# Altium integrated library NSC Switcher.IntLib: 2027 symbols (part 42 of 54)
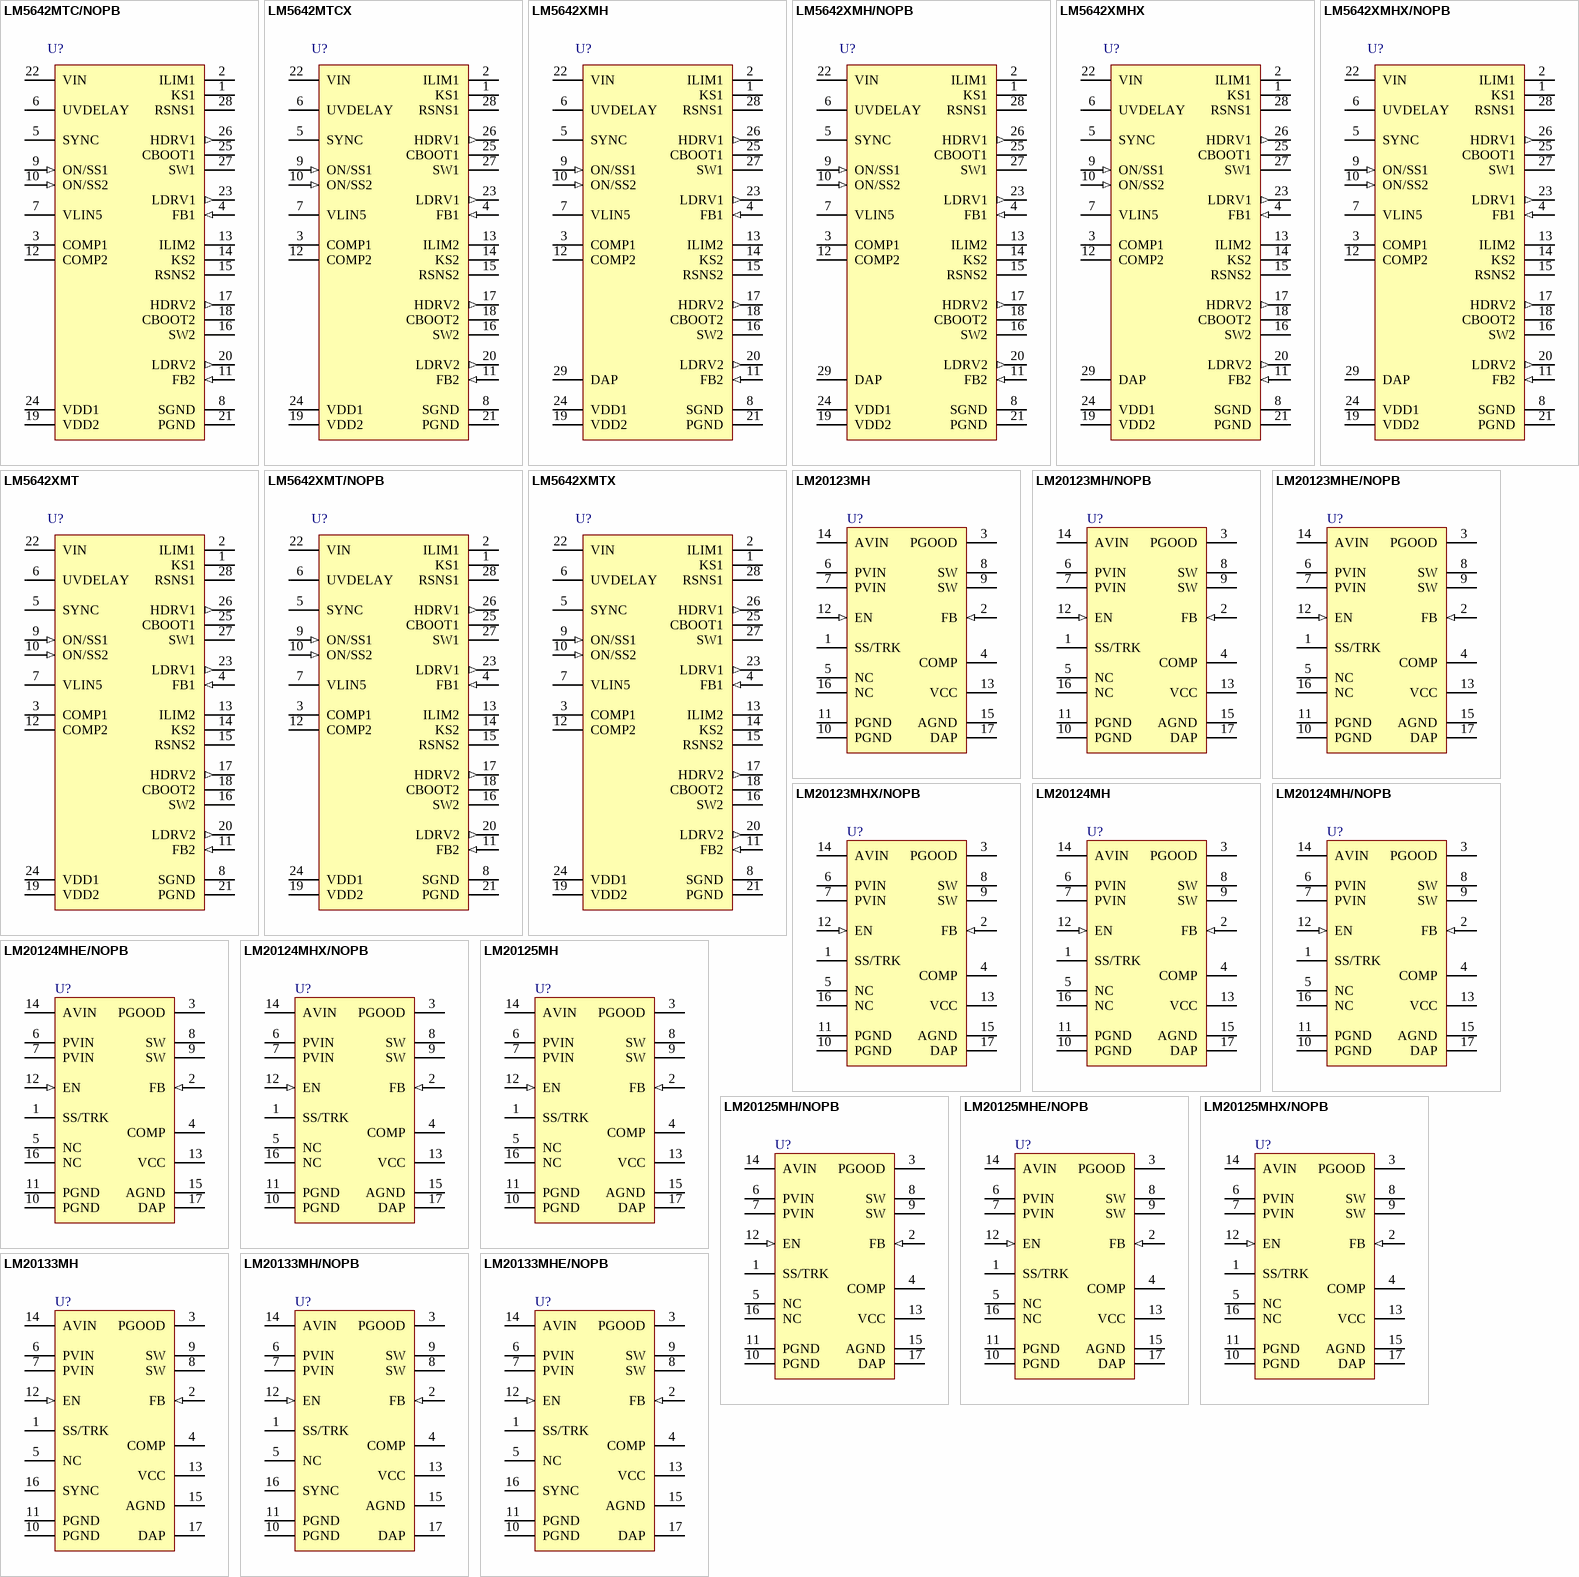
[diagram p104: symbols LM5642MTC/NOPB to LM20133MHE/NOPB]

## LM20124MH/NOPB
designator U?
4A, 1MHz PowerWise Synchronous Buck Regulator, 16-pin TSSOP-EP, Pb-Free; PartNumber: LM20124MH/NOPB; Manufacturer: National Semiconductor; PackageTopMarking: NSUZXYTT*20124*MH; PowerWise: Y; CompType: Switcher; Published: 1-Mar-2010; DatasheetVersion: Jan-2008; PackageVersion: revA, Apr-2003; PackageReference: MXA16A; Publisher: Altium Limited; PackageDescription: Molded TSSOP, Jedec, Exposed Pad, 5.0 x 4.4 x 0.9mm Body,16 Lead, 0.65mm Pitch; Supplier 1: Digi-Key; Supplier Part Number 1: LM20124MH-ND; RoHS: Y; PinCount: 16; Code_JEDEC: MO-153-ABT; ComponentLink1Description: LM20124 Datasheet; ComponentLink1URL: http://www.national.com/ds/LM/LM20124.pdf; ComponentLink2Description: LM20124 Web Page; ComponentLink2URL: http://www.national.com/pf/LM/LM20124.html; ComponentLink3Description: MXA16A Package Page; ComponentLink3URL: http://www.national.com/packaging/folders/mxa16a.html
footprint MXA16A_N (TSOP, 16-Leads, Body 5x4.4mm, Pitch 0.65mm, Exposed Pad, IPC Medium Density)
footprint MXA16A_L (TSOP, 16-Leads, Body 5x4.4mm, Pitch 0.65mm, Exposed Pad, IPC High Density)
footprint MXA16A_M (TSOP, 16-Leads, Body 5x4.4mm, Pitch 0.65mm, Exposed Pad, IPC Low Density)
pins: 1 SS/TRK, 2 FB (in), 3 PGOOD (oc), 4 COMP, 5 NC, 6 PVIN (power), 7 PVIN (power), 8 SW (power), 9 SW (power), 10 PGND (power), 11 PGND (power), 12 EN (in), 13 VCC (power), 14 AVIN (power), 15 AGND (power), 16 NC, 17 DAP (power)

## LM20124MHE/NOPB
designator U?
4A, 1MHz PowerWise Synchronous Buck Regulator, 16-pin TSSOP-EP, Pb-Free; PartNumber: LM20124MHE/NOPB; Manufacturer: National Semiconductor; PackageTopMarking: NSUZXYTT*20124*MH; PowerWise: Y; CompType: Switcher; Published: 1-Mar-2010; DatasheetVersion: Jan-2008; PackageVersion: revA, Apr-2003; PackageReference: MXA16A; Publisher: Altium Limited; PackageDescription: Molded TSSOP, Jedec, Exposed Pad, 5.0 x 4.4 x 0.9mm Body,16 Lead, 0.65mm Pitch; Supplier 1: Digi-Key; Supplier Part Number 1: LM20124MHE-ND; RoHS: Y; PinCount: 16; Code_JEDEC: MO-153-ABT; ComponentLink1Description: LM20124 Datasheet; ComponentLink1URL: http://www.national.com/ds/LM/LM20124.pdf; ComponentLink2Description: LM20124 Web Page; ComponentLink2URL: http://www.national.com/pf/LM/LM20124.html; ComponentLink3Description: MXA16A Package Page; ComponentLink3URL: http://www.national.com/packaging/folders/mxa16a.html
footprint MXA16A_N (TSOP, 16-Leads, Body 5x4.4mm, Pitch 0.65mm, Exposed Pad, IPC Medium Density)
footprint MXA16A_L (TSOP, 16-Leads, Body 5x4.4mm, Pitch 0.65mm, Exposed Pad, IPC High Density)
footprint MXA16A_M (TSOP, 16-Leads, Body 5x4.4mm, Pitch 0.65mm, Exposed Pad, IPC Low Density)
pins: 1 SS/TRK, 2 FB (in), 3 PGOOD (oc), 4 COMP, 5 NC, 6 PVIN (power), 7 PVIN (power), 8 SW (power), 9 SW (power), 10 PGND (power), 11 PGND (power), 12 EN (in), 13 VCC (power), 14 AVIN (power), 15 AGND (power), 16 NC, 17 DAP (power)

## LM20124MHX/NOPB
designator U?
4A, 1MHz PowerWise Synchronous Buck Regulator, 16-pin TSSOP-EP, Pb-Free; PartNumber: LM20124MHX/NOPB; Manufacturer: National Semiconductor; PackageTopMarking: NSUZXYTT*20124*MH; PowerWise: Y; CompType: Switcher; Published: 1-Mar-2010; DatasheetVersion: Jan-2008; PackageVersion: revA, Apr-2003; PackageReference: MXA16A; Publisher: Altium Limited; PackageDescription: Molded TSSOP, Jedec, Exposed Pad, 5.0 x 4.4 x 0.9mm Body,16 Lead, 0.65mm Pitch; Supplier 1: Digi-Key; Supplier Part Number 1: LM20124MHX-ND; RoHS: Y; PinCount: 16; Code_JEDEC: MO-153-ABT; ComponentLink1Description: LM20124 Datasheet; ComponentLink1URL: http://www.national.com/ds/LM/LM20124.pdf; ComponentLink2Description: LM20124 Web Page; ComponentLink2URL: http://www.national.com/pf/LM/LM20124.html; ComponentLink3Description: MXA16A Package Page; ComponentLink3URL: http://www.national.com/packaging/folders/mxa16a.html
footprint MXA16A_N (TSOP, 16-Leads, Body 5x4.4mm, Pitch 0.65mm, Exposed Pad, IPC Medium Density)
footprint MXA16A_L (TSOP, 16-Leads, Body 5x4.4mm, Pitch 0.65mm, Exposed Pad, IPC High Density)
footprint MXA16A_M (TSOP, 16-Leads, Body 5x4.4mm, Pitch 0.65mm, Exposed Pad, IPC Low Density)
pins: 1 SS/TRK, 2 FB (in), 3 PGOOD (oc), 4 COMP, 5 NC, 6 PVIN (power), 7 PVIN (power), 8 SW (power), 9 SW (power), 10 PGND (power), 11 PGND (power), 12 EN (in), 13 VCC (power), 14 AVIN (power), 15 AGND (power), 16 NC, 17 DAP (power)

## LM20125MH
designator U?
5A, 500kHz PowerWise Synchronous Buck Regulator, 16-pin TSSOP-EP; PartNumber: LM20125MH; Manufacturer: National Semiconductor; PackageTopMarking: NSUZXYTT*20125*MH; PowerWise: Y; CompType: Switcher; Published: 4-Dec-2008; DatasheetVersion: Jan-2008; PackageVersion: revA, Apr-2003; PackageReference: MXA16A; Publisher: Altium Limited; PackageDescription: Molded TSSOP, Jedec, Exposed Pad, 5.0 x 4.4 x 0.9mm Body,16 Lead, 0.65mm Pitch; Supplier 1: Farnell; Supplier Part Number 1: 1506829; RoHS: Y; PinCount: 16; Code_JEDEC: MO-153-ABT; ComponentLink1Description: LM20125 Datasheet; ComponentLink1URL: http://www.national.com/ds/LM/LM20125.pdf; ComponentLink2Description: LM20125 Web Page; ComponentLink2URL: http://www.national.com/pf/LM/LM20125.html; ComponentLink3Description: MXA16A Package Page; ComponentLink3URL: http://www.national.com/packaging/folders/mxa16a.html
footprint MXA16A_N (TSOP, 16-Leads, Body 5x4.4mm, Pitch 0.65mm, Exposed Pad, IPC Medium Density)
footprint MXA16A_L (TSOP, 16-Leads, Body 5x4.4mm, Pitch 0.65mm, Exposed Pad, IPC High Density)
footprint MXA16A_M (TSOP, 16-Leads, Body 5x4.4mm, Pitch 0.65mm, Exposed Pad, IPC Low Density)
pins: 1 SS/TRK, 2 FB (in), 3 PGOOD (oc), 4 COMP, 5 NC, 6 PVIN (power), 7 PVIN (power), 8 SW (power), 9 SW (power), 10 PGND (power), 11 PGND (power), 12 EN (in), 13 VCC (power), 14 AVIN (power), 15 AGND (power), 16 NC, 17 DAP (power)

## LM20125MH/NOPB
designator U?
5A, 500kHz PowerWise Synchronous Buck Regulator, 16-pin TSSOP-EP, Pb-Free; PartNumber: LM20125MH/NOPB; Manufacturer: National Semiconductor; PackageTopMarking: NSUZXYTT*20125*MH; PowerWise: Y; CompType: Switcher; Published: 1-Mar-2010; DatasheetVersion: Jan-2008; PackageVersion: revA, Apr-2003; PackageReference: MXA16A; Publisher: Altium Limited; PackageDescription: Molded TSSOP, Jedec, Exposed Pad, 5.0 x 4.4 x 0.9mm Body,16 Lead, 0.65mm Pitch; Supplier 1: Digi-Key; Supplier Part Number 1: LM20125MH-ND; Supplier 2: Farnell; Supplier Part Number 2: 1511020; RoHS: Y; PinCount: 16; Code_JEDEC: MO-153-ABT; ComponentLink1Description: LM20125 Datasheet; ComponentLink1URL: http://www.national.com/ds/LM/LM20125.pdf; ComponentLink2Description: LM20125 Web Page; ComponentLink2URL: http://www.national.com/pf/LM/LM20125.html; ComponentLink3Description: MXA16A Package Page; ComponentLink3URL: http://www.national.com/packaging/folders/mxa16a.html
footprint MXA16A_N (TSOP, 16-Leads, Body 5x4.4mm, Pitch 0.65mm, Exposed Pad, IPC Medium Density)
footprint MXA16A_L (TSOP, 16-Leads, Body 5x4.4mm, Pitch 0.65mm, Exposed Pad, IPC High Density)
footprint MXA16A_M (TSOP, 16-Leads, Body 5x4.4mm, Pitch 0.65mm, Exposed Pad, IPC Low Density)
pins: 1 SS/TRK, 2 FB (in), 3 PGOOD (oc), 4 COMP, 5 NC, 6 PVIN (power), 7 PVIN (power), 8 SW (power), 9 SW (power), 10 PGND (power), 11 PGND (power), 12 EN (in), 13 VCC (power), 14 AVIN (power), 15 AGND (power), 16 NC, 17 DAP (power)

## LM20125MHE/NOPB
designator U?
5A, 500kHz PowerWise Synchronous Buck Regulator, 16-pin TSSOP-EP, Pb-Free; PartNumber: LM20125MHE/NOPB; Manufacturer: National Semiconductor; PackageTopMarking: NSUZXYTT*20125*MH; PowerWise: Y; CompType: Switcher; Published: 1-Mar-2010; DatasheetVersion: Jan-2008; PackageVersion: revA, Apr-2003; PackageReference: MXA16A; Publisher: Altium Limited; PackageDescription: Molded TSSOP, Jedec, Exposed Pad, 5.0 x 4.4 x 0.9mm Body,16 Lead, 0.65mm Pitch; Supplier 1: Digi-Key; Supplier Part Number 1: LM20125MHE-ND; RoHS: Y; PinCount: 16; Code_JEDEC: MO-153-ABT; ComponentLink1Description: LM20125 Datasheet; ComponentLink1URL: http://www.national.com/ds/LM/LM20125.pdf; ComponentLink2Description: LM20125 Web Page; ComponentLink2URL: http://www.national.com/pf/LM/LM20125.html; ComponentLink3Description: MXA16A Package Page; ComponentLink3URL: http://www.national.com/packaging/folders/mxa16a.html
footprint MXA16A_N (TSOP, 16-Leads, Body 5x4.4mm, Pitch 0.65mm, Exposed Pad, IPC Medium Density)
footprint MXA16A_L (TSOP, 16-Leads, Body 5x4.4mm, Pitch 0.65mm, Exposed Pad, IPC High Density)
footprint MXA16A_M (TSOP, 16-Leads, Body 5x4.4mm, Pitch 0.65mm, Exposed Pad, IPC Low Density)
pins: 1 SS/TRK, 2 FB (in), 3 PGOOD (oc), 4 COMP, 5 NC, 6 PVIN (power), 7 PVIN (power), 8 SW (power), 9 SW (power), 10 PGND (power), 11 PGND (power), 12 EN (in), 13 VCC (power), 14 AVIN (power), 15 AGND (power), 16 NC, 17 DAP (power)

## LM20125MHX/NOPB
designator U?
5A, 500kHz PowerWise Synchronous Buck Regulator, 16-pin TSSOP-EP, Pb-Free; PartNumber: LM20125MHX/NOPB; Manufacturer: National Semiconductor; PackageTopMarking: NSUZXYTT*20125*MH; PowerWise: Y; CompType: Switcher; Published: 1-Mar-2010; DatasheetVersion: Jan-2008; PackageVersion: revA, Apr-2003; PackageReference: MXA16A; Publisher: Altium Limited; PackageDescription: Molded TSSOP, Jedec, Exposed Pad, 5.0 x 4.4 x 0.9mm Body,16 Lead, 0.65mm Pitch; Supplier 1: Digi-Key; Supplier Part Number 1: LM20125MHX-ND; RoHS: Y; PinCount: 16; Code_JEDEC: MO-153-ABT; ComponentLink1Description: LM20125 Datasheet; ComponentLink1URL: http://www.national.com/ds/LM/LM20125.pdf; ComponentLink2Description: LM20125 Web Page; ComponentLink2URL: http://www.national.com/pf/LM/LM20125.html; ComponentLink3Description: MXA16A Package Page; ComponentLink3URL: http://www.national.com/packaging/folders/mxa16a.html
footprint MXA16A_N (TSOP, 16-Leads, Body 5x4.4mm, Pitch 0.65mm, Exposed Pad, IPC Medium Density)
footprint MXA16A_L (TSOP, 16-Leads, Body 5x4.4mm, Pitch 0.65mm, Exposed Pad, IPC High Density)
footprint MXA16A_M (TSOP, 16-Leads, Body 5x4.4mm, Pitch 0.65mm, Exposed Pad, IPC Low Density)
pins: 1 SS/TRK, 2 FB (in), 3 PGOOD (oc), 4 COMP, 5 NC, 6 PVIN (power), 7 PVIN (power), 8 SW (power), 9 SW (power), 10 PGND (power), 11 PGND (power), 12 EN (in), 13 VCC (power), 14 AVIN (power), 15 AGND (power), 16 NC, 17 DAP (power)

## LM20133MH
designator U?
3A, PowerWise Synchronous Buck Regulator with Input Synchronization, 16-pin TSSOP-EP; PartNumber: LM20133MH; Manufacturer: National Semiconductor; PackageTopMarking: NSUZXYTT*20133*MH; PowerWise: Y; CompType: Switcher; Published: 4-Dec-2008; DatasheetVersion: Jan-2008; PackageVersion: revA, Apr-2003; PackageReference: MXA16A; Publisher: Altium Limited; PackageDescription: Molded TSSOP, Jedec, Exposed Pad, 5.0 x 4.4 x 0.9mm Body,16 Lead, 0.65mm Pitch; Supplier 1: Farnell; Supplier Part Number 1: 1495075; RoHS: Y; PinCount: 16; Code_JEDEC: MO-153-ABT; ComponentLink1Description: LM20133 Datasheet; ComponentLink1URL: http://www.national.com/ds/LM/LM20133.pdf; ComponentLink2Description: LM20133 Web Page; ComponentLink2URL: http://www.national.com/pf/LM/LM20133.html; ComponentLink3Description: MXA16A Package Page; ComponentLink3URL: http://www.national.com/packaging/folders/mxa16a.html
footprint MXA16A_N (TSOP, 16-Leads, Body 5x4.4mm, Pitch 0.65mm, Exposed Pad, IPC Medium Density)
footprint MXA16A_L (TSOP, 16-Leads, Body 5x4.4mm, Pitch 0.65mm, Exposed Pad, IPC High Density)
footprint MXA16A_M (TSOP, 16-Leads, Body 5x4.4mm, Pitch 0.65mm, Exposed Pad, IPC Low Density)
pins: 1 SS/TRK, 2 FB (in), 3 PGOOD (oc), 4 COMP, 5 NC, 6 PVIN (power), 7 PVIN (power), 8 SW (power), 9 SW (power), 10 PGND (power), 11 PGND (power), 12 EN (in), 13 VCC (power), 14 AVIN (power), 15 AGND (power), 16 SYNC, 17 DAP (power)

## LM20133MH/NOPB
designator U?
3A, PowerWise Synchronous Buck Regulator with Input Synchronization, 16-pin TSSOP-EP, Pb-Free; PartNumber: LM20133MH/NOPB; Manufacturer: National Semiconductor; PackageTopMarking: NSUZXYTT*20133*MH; PowerWise: Y; CompType: Switcher; Published: 1-Mar-2010; DatasheetVersion: Jan-2008; PackageVersion: revA, Apr-2003; PackageReference: MXA16A; Publisher: Altium Limited; PackageDescription: Molded TSSOP, Jedec, Exposed Pad, 5.0 x 4.4 x 0.9mm Body,16 Lead, 0.65mm Pitch; Supplier 1: Digi-Key; Supplier Part Number 1: LM20133MH-ND; Supplier 2: Farnell; Supplier Part Number 2: 1511024; RoHS: Y; PinCount: 16; Code_JEDEC: MO-153-ABT; ComponentLink1Description: LM20133 Datasheet; ComponentLink1URL: http://www.national.com/ds/LM/LM20133.pdf; ComponentLink2Description: LM20133 Web Page; ComponentLink2URL: http://www.national.com/pf/LM/LM20133.html; ComponentLink3Description: MXA16A Package Page; ComponentLink3URL: http://www.national.com/packaging/folders/mxa16a.html
footprint MXA16A_N (TSOP, 16-Leads, Body 5x4.4mm, Pitch 0.65mm, Exposed Pad, IPC Medium Density)
footprint MXA16A_L (TSOP, 16-Leads, Body 5x4.4mm, Pitch 0.65mm, Exposed Pad, IPC High Density)
footprint MXA16A_M (TSOP, 16-Leads, Body 5x4.4mm, Pitch 0.65mm, Exposed Pad, IPC Low Density)
pins: 1 SS/TRK, 2 FB (in), 3 PGOOD (oc), 4 COMP, 5 NC, 6 PVIN (power), 7 PVIN (power), 8 SW (power), 9 SW (power), 10 PGND (power), 11 PGND (power), 12 EN (in), 13 VCC (power), 14 AVIN (power), 15 AGND (power), 16 SYNC, 17 DAP (power)

## LM20133MHE/NOPB
designator U?
3A, PowerWise Synchronous Buck Regulator with Input Synchronization, 16-pin TSSOP-EP, Pb-Free; PartNumber: LM20133MHE/NOPB; Manufacturer: National Semiconductor; PackageTopMarking: NSUZXYTT*20133*MH; PowerWise: Y; CompType: Switcher; Published: 1-Mar-2010; DatasheetVersion: Jan-2008; PackageVersion: revA, Apr-2003; PackageReference: MXA16A; Publisher: Altium Limited; PackageDescription: Molded TSSOP, Jedec, Exposed Pad, 5.0 x 4.4 x 0.9mm Body,16 Lead, 0.65mm Pitch; Supplier 1: Digi-Key; Supplier Part Number 1: LM20133MHE-ND; RoHS: Y; PinCount: 16; Code_JEDEC: MO-153-ABT; ComponentLink1Description: LM20133 Datasheet; ComponentLink1URL: http://www.national.com/ds/LM/LM20133.pdf; ComponentLink2Description: LM20133 Web Page; ComponentLink2URL: http://www.national.com/pf/LM/LM20133.html; ComponentLink3Description: MXA16A Package Page; ComponentLink3URL: http://www.national.com/packaging/folders/mxa16a.html
footprint MXA16A_N (TSOP, 16-Leads, Body 5x4.4mm, Pitch 0.65mm, Exposed Pad, IPC Medium Density)
footprint MXA16A_L (TSOP, 16-Leads, Body 5x4.4mm, Pitch 0.65mm, Exposed Pad, IPC High Density)
footprint MXA16A_M (TSOP, 16-Leads, Body 5x4.4mm, Pitch 0.65mm, Exposed Pad, IPC Low Density)
pins: 1 SS/TRK, 2 FB (in), 3 PGOOD (oc), 4 COMP, 5 NC, 6 PVIN (power), 7 PVIN (power), 8 SW (power), 9 SW (power), 10 PGND (power), 11 PGND (power), 12 EN (in), 13 VCC (power), 14 AVIN (power), 15 AGND (power), 16 SYNC, 17 DAP (power)

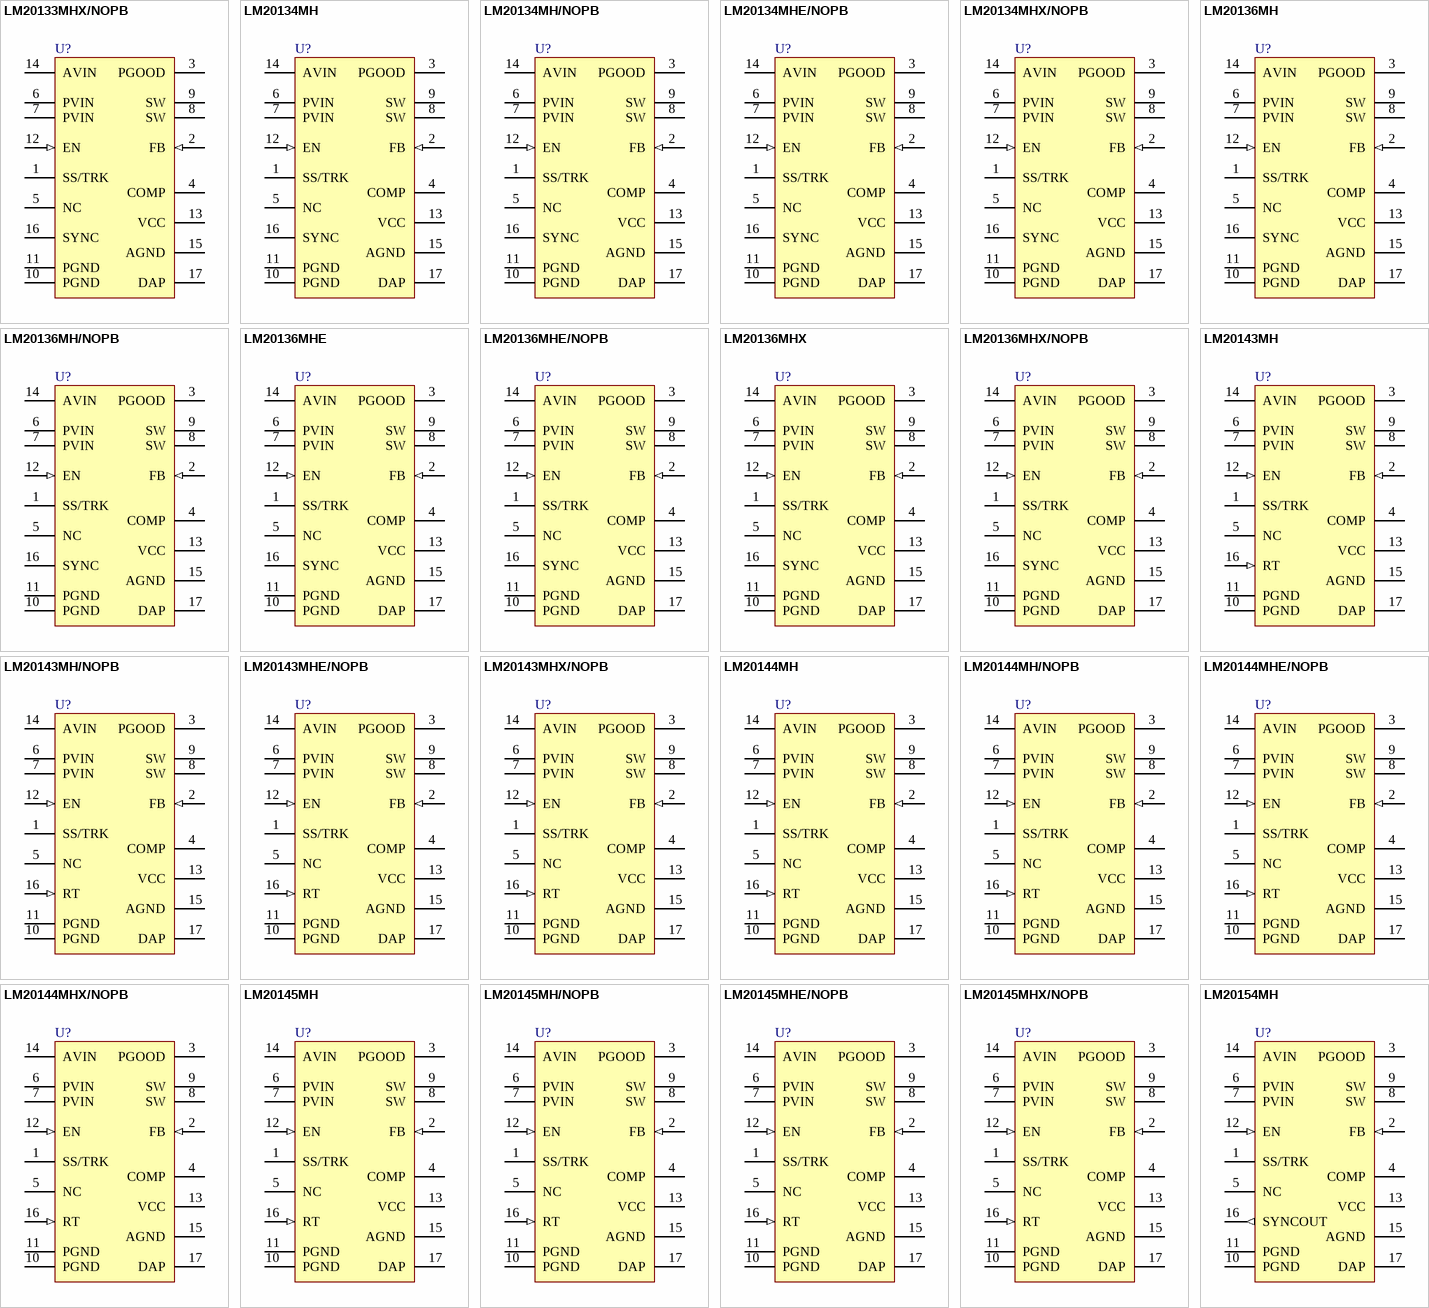
[diagram p47: symbols LM20133MHX/NOPB to LM20154MH]

## LM20133MHX/NOPB
designator U?
3A, PowerWise Synchronous Buck Regulator with Input Synchronization, 16-pin TSSOP-EP, Pb-Free; PartNumber: LM20133MHX/NOPB; Manufacturer: National Semiconductor; PackageTopMarking: NSUZXYTT*20133*MH; PowerWise: Y; CompType: Switcher; Published: 1-Mar-2010; DatasheetVersion: Jan-2008; PackageVersion: revA, Apr-2003; PackageReference: MXA16A; Publisher: Altium Limited; PackageDescription: Molded TSSOP, Jedec, Exposed Pad, 5.0 x 4.4 x 0.9mm Body,16 Lead, 0.65mm Pitch; Supplier 1: Digi-Key; Supplier Part Number 1: LM20133MHX-ND; RoHS: Y; PinCount: 16; Code_JEDEC: MO-153-ABT; ComponentLink1Description: LM20133 Datasheet; ComponentLink1URL: http://www.national.com/ds/LM/LM20133.pdf; ComponentLink2Description: LM20133 Web Page; ComponentLink2URL: http://www.national.com/pf/LM/LM20133.html; ComponentLink3Description: MXA16A Package Page; ComponentLink3URL: http://www.national.com/packaging/folders/mxa16a.html
footprint MXA16A_N (TSOP, 16-Leads, Body 5x4.4mm, Pitch 0.65mm, Exposed Pad, IPC Medium Density)
footprint MXA16A_L (TSOP, 16-Leads, Body 5x4.4mm, Pitch 0.65mm, Exposed Pad, IPC High Density)
footprint MXA16A_M (TSOP, 16-Leads, Body 5x4.4mm, Pitch 0.65mm, Exposed Pad, IPC Low Density)
pins: 1 SS/TRK, 2 FB (in), 3 PGOOD (oc), 4 COMP, 5 NC, 6 PVIN (power), 7 PVIN (power), 8 SW (power), 9 SW (power), 10 PGND (power), 11 PGND (power), 12 EN (in), 13 VCC (power), 14 AVIN (power), 15 AGND (power), 16 SYNC, 17 DAP (power)

## LM20134MH
designator U?
4A, PowerWise Synchronous Buck Regulator with Input Synchronization, 16-pin TSSOP-EP; PartNumber: LM20134MH; Manufacturer: National Semiconductor; PackageTopMarking: NSUZXYTT*20134*MH; PowerWise: Y; CompType: Switcher; Published: 4-Dec-2008; DatasheetVersion: Jan-2008; PackageVersion: revA, Apr-2003; PackageReference: MXA16A; Publisher: Altium Limited; PackageDescription: Molded TSSOP, Jedec, Exposed Pad, 5.0 x 4.4 x 0.9mm Body,16 Lead, 0.65mm Pitch; Supplier 1: Farnell; Supplier Part Number 1: 1506827; RoHS: Y; PinCount: 16; Code_JEDEC: MO-153-ABT; ComponentLink1Description: LM20134 Datasheet; ComponentLink1URL: http://www.national.com/ds/LM/LM20134.pdf; ComponentLink2Description: LM20134 Web Page; ComponentLink2URL: http://www.national.com/pf/LM/LM20134.html; ComponentLink3Description: MXA16A Package Page; ComponentLink3URL: http://www.national.com/packaging/folders/mxa16a.html
footprint MXA16A_N (TSOP, 16-Leads, Body 5x4.4mm, Pitch 0.65mm, Exposed Pad, IPC Medium Density)
footprint MXA16A_L (TSOP, 16-Leads, Body 5x4.4mm, Pitch 0.65mm, Exposed Pad, IPC High Density)
footprint MXA16A_M (TSOP, 16-Leads, Body 5x4.4mm, Pitch 0.65mm, Exposed Pad, IPC Low Density)
pins: 1 SS/TRK, 2 FB (in), 3 PGOOD (oc), 4 COMP, 5 NC, 6 PVIN (power), 7 PVIN (power), 8 SW (power), 9 SW (power), 10 PGND (power), 11 PGND (power), 12 EN (in), 13 VCC (power), 14 AVIN (power), 15 AGND (power), 16 SYNC, 17 DAP (power)

## LM20134MH/NOPB
designator U?
4A, PowerWise Synchronous Buck Regulator with Input Synchronization, 16-pin TSSOP-EP, Pb-Free; PartNumber: LM20134MH/NOPB; Manufacturer: National Semiconductor; PackageTopMarking: NSUZXYTT*20134*MH; PowerWise: Y; CompType: Switcher; Published: 1-Mar-2010; DatasheetVersion: Jan-2008; PackageVersion: revA, Apr-2003; PackageReference: MXA16A; Publisher: Altium Limited; PackageDescription: Molded TSSOP, Jedec, Exposed Pad, 5.0 x 4.4 x 0.9mm Body,16 Lead, 0.65mm Pitch; Supplier 1: Digi-Key; Supplier Part Number 1: LM20134MH-ND; RoHS: Y; PinCount: 16; Code_JEDEC: MO-153-ABT; ComponentLink1Description: LM20134 Datasheet; ComponentLink1URL: http://www.national.com/ds/LM/LM20134.pdf; ComponentLink2Description: LM20134 Web Page; ComponentLink2URL: http://www.national.com/pf/LM/LM20134.html; ComponentLink3Description: MXA16A Package Page; ComponentLink3URL: http://www.national.com/packaging/folders/mxa16a.html
footprint MXA16A_N (TSOP, 16-Leads, Body 5x4.4mm, Pitch 0.65mm, Exposed Pad, IPC Medium Density)
footprint MXA16A_L (TSOP, 16-Leads, Body 5x4.4mm, Pitch 0.65mm, Exposed Pad, IPC High Density)
footprint MXA16A_M (TSOP, 16-Leads, Body 5x4.4mm, Pitch 0.65mm, Exposed Pad, IPC Low Density)
pins: 1 SS/TRK, 2 FB (in), 3 PGOOD (oc), 4 COMP, 5 NC, 6 PVIN (power), 7 PVIN (power), 8 SW (power), 9 SW (power), 10 PGND (power), 11 PGND (power), 12 EN (in), 13 VCC (power), 14 AVIN (power), 15 AGND (power), 16 SYNC, 17 DAP (power)

## LM20134MHE/NOPB
designator U?
4A, PowerWise Synchronous Buck Regulator with Input Synchronization, 16-pin TSSOP-EP, Pb-Free; PartNumber: LM20134MHE/NOPB; Manufacturer: National Semiconductor; PackageTopMarking: NSUZXYTT*20134*MH; PowerWise: Y; CompType: Switcher; Published: 1-Mar-2010; DatasheetVersion: Jan-2008; PackageVersion: revA, Apr-2003; PackageReference: MXA16A; Publisher: Altium Limited; PackageDescription: Molded TSSOP, Jedec, Exposed Pad, 5.0 x 4.4 x 0.9mm Body,16 Lead, 0.65mm Pitch; Supplier 1: Digi-Key; Supplier Part Number 1: LM20134MHE-ND; RoHS: Y; PinCount: 16; Code_JEDEC: MO-153-ABT; ComponentLink1Description: LM20134 Datasheet; ComponentLink1URL: http://www.national.com/ds/LM/LM20134.pdf; ComponentLink2Description: LM20134 Web Page; ComponentLink2URL: http://www.national.com/pf/LM/LM20134.html; ComponentLink3Description: MXA16A Package Page; ComponentLink3URL: http://www.national.com/packaging/folders/mxa16a.html
footprint MXA16A_N (TSOP, 16-Leads, Body 5x4.4mm, Pitch 0.65mm, Exposed Pad, IPC Medium Density)
footprint MXA16A_L (TSOP, 16-Leads, Body 5x4.4mm, Pitch 0.65mm, Exposed Pad, IPC High Density)
footprint MXA16A_M (TSOP, 16-Leads, Body 5x4.4mm, Pitch 0.65mm, Exposed Pad, IPC Low Density)
pins: 1 SS/TRK, 2 FB (in), 3 PGOOD (oc), 4 COMP, 5 NC, 6 PVIN (power), 7 PVIN (power), 8 SW (power), 9 SW (power), 10 PGND (power), 11 PGND (power), 12 EN (in), 13 VCC (power), 14 AVIN (power), 15 AGND (power), 16 SYNC, 17 DAP (power)

## LM20134MHX/NOPB
designator U?
4A, PowerWise Synchronous Buck Regulator with Input Synchronization, 16-pin TSSOP-EP, Pb-Free; PartNumber: LM20134MHX/NOPB; Manufacturer: National Semiconductor; PackageTopMarking: NSUZXYTT*20134*MH; PowerWise: Y; CompType: Switcher; Published: 1-Mar-2010; DatasheetVersion: Jan-2008; PackageVersion: revA, Apr-2003; PackageReference: MXA16A; Publisher: Altium Limited; PackageDescription: Molded TSSOP, Jedec, Exposed Pad, 5.0 x 4.4 x 0.9mm Body,16 Lead, 0.65mm Pitch; Supplier 1: Digi-Key; Supplier Part Number 1: LM20134MHX-ND; RoHS: Y; PinCount: 16; Code_JEDEC: MO-153-ABT; ComponentLink1Description: LM20134 Datasheet; ComponentLink1URL: http://www.national.com/ds/LM/LM20134.pdf; ComponentLink2Description: LM20134 Web Page; ComponentLink2URL: http://www.national.com/pf/LM/LM20134.html; ComponentLink3Description: MXA16A Package Page; ComponentLink3URL: http://www.national.com/packaging/folders/mxa16a.html
footprint MXA16A_N (TSOP, 16-Leads, Body 5x4.4mm, Pitch 0.65mm, Exposed Pad, IPC Medium Density)
footprint MXA16A_L (TSOP, 16-Leads, Body 5x4.4mm, Pitch 0.65mm, Exposed Pad, IPC High Density)
footprint MXA16A_M (TSOP, 16-Leads, Body 5x4.4mm, Pitch 0.65mm, Exposed Pad, IPC Low Density)
pins: 1 SS/TRK, 2 FB (in), 3 PGOOD (oc), 4 COMP, 5 NC, 6 PVIN (power), 7 PVIN (power), 8 SW (power), 9 SW (power), 10 PGND (power), 11 PGND (power), 12 EN (in), 13 VCC (power), 14 AVIN (power), 15 AGND (power), 16 SYNC, 17 DAP (power)

## LM20136MH
designator U?
6A, Synchronous Buck Regulator with Input Synchronization, 16-pin TSSOP-EP; PartNumber: LM20136MH; Manufacturer: National Semiconductor; PackageTopMarking: NSUZXYTT*L20136*MH; PowerWise: Y; CompType: Switcher; Published: 4-May-2009; DatasheetVersion: Feb-2009; PackageVersion: revA, Apr-2003; PackageReference: MXA16A; Publisher: Altium Limited; PackageDescription: Molded TSSOP, Jedec, Exposed Pad, 5.0 x 4.4 x 0.9mm Body,16 Lead, 0.65mm Pitch; Supplier 1: Farnell; Supplier Part Number 1: 1699375; RoHS: Y; PinCount: 16; Code_JEDEC: MO-153-ABT; ComponentLink1Description: LM20136 Datasheet; ComponentLink1URL: http://www.national.com/ds/LM/LM20136.pdf; ComponentLink2Description: LM20136 Web Page; ComponentLink2URL: http://www.national.com/pf/LM/LM20136.html; ComponentLink3Description: MXA16A Package Page; ComponentLink3URL: http://www.national.com/packaging/folders/mxa16a.html
footprint MXA16A_N (TSOP, 16-Leads, Body 5x4.4mm, Pitch 0.65mm, Exposed Pad, IPC Medium Density)
footprint MXA16A_L (TSOP, 16-Leads, Body 5x4.4mm, Pitch 0.65mm, Exposed Pad, IPC High Density)
footprint MXA16A_M (TSOP, 16-Leads, Body 5x4.4mm, Pitch 0.65mm, Exposed Pad, IPC Low Density)
pins: 1 SS/TRK, 2 FB (in), 3 PGOOD (oc), 4 COMP, 5 NC, 6 PVIN (power), 7 PVIN (power), 8 SW (power), 9 SW (power), 10 PGND (power), 11 PGND (power), 12 EN (in), 13 VCC (power), 14 AVIN (power), 15 AGND (power), 16 SYNC, 17 DAP (power)

## LM20136MH/NOPB
designator U?
6A, Synchronous Buck Regulator with Input Synchronization, 16-pin TSSOP-EP, Pb-Free; PartNumber: LM20136MH/NOPB; Manufacturer: National Semiconductor; PackageTopMarking: NSUZXYTT*L20136*MH; PowerWise: Y; CompType: Switcher; Published: 1-Mar-2010; DatasheetVersion: Feb-2009; PackageVersion: revA, Apr-2003; PackageReference: MXA16A; Publisher: Altium Limited; PackageDescription: Molded TSSOP, Jedec, Exposed Pad, 5.0 x 4.4 x 0.9mm Body,16 Lead, 0.65mm Pitch; Supplier 1: Digi-Key; Supplier Part Number 1: LM20136MH-ND; RoHS: Y; PinCount: 16; Code_JEDEC: MO-153-ABT; ComponentLink1Description: LM20136 Datasheet; ComponentLink1URL: http://www.national.com/ds/LM/LM20136.pdf; ComponentLink2Description: LM20136 Web Page; ComponentLink2URL: http://www.national.com/pf/LM/LM20136.html; ComponentLink3Description: MXA16A Package Page; ComponentLink3URL: http://www.national.com/packaging/folders/mxa16a.html
footprint MXA16A_N (TSOP, 16-Leads, Body 5x4.4mm, Pitch 0.65mm, Exposed Pad, IPC Medium Density)
footprint MXA16A_L (TSOP, 16-Leads, Body 5x4.4mm, Pitch 0.65mm, Exposed Pad, IPC High Density)
footprint MXA16A_M (TSOP, 16-Leads, Body 5x4.4mm, Pitch 0.65mm, Exposed Pad, IPC Low Density)
pins: 1 SS/TRK, 2 FB (in), 3 PGOOD (oc), 4 COMP, 5 NC, 6 PVIN (power), 7 PVIN (power), 8 SW (power), 9 SW (power), 10 PGND (power), 11 PGND (power), 12 EN (in), 13 VCC (power), 14 AVIN (power), 15 AGND (power), 16 SYNC, 17 DAP (power)

## LM20136MHE
designator U?
6A, Synchronous Buck Regulator with Input Synchronization, 16-pin TSSOP-EP; PartNumber: LM20136MHE; Manufacturer: National Semiconductor; PackageTopMarking: NSUZXYTT*L20136*MH; PowerWise: Y; CompType: Switcher; Published: 4-May-2009; DatasheetVersion: Feb-2009; PackageVersion: revA, Apr-2003; PackageReference: MXA16A; Publisher: Altium Limited; PackageDescription: Molded TSSOP, Jedec, Exposed Pad, 5.0 x 4.4 x 0.9mm Body,16 Lead, 0.65mm Pitch; RoHS: Y; PinCount: 16; Code_JEDEC: MO-153-ABT; ComponentLink1Description: LM20136 Datasheet; ComponentLink1URL: http://www.national.com/ds/LM/LM20136.pdf; ComponentLink2Description: LM20136 Web Page; ComponentLink2URL: http://www.national.com/pf/LM/LM20136.html; ComponentLink3Description: MXA16A Package Page; ComponentLink3URL: http://www.national.com/packaging/folders/mxa16a.html
footprint MXA16A_N (TSOP, 16-Leads, Body 5x4.4mm, Pitch 0.65mm, Exposed Pad, IPC Medium Density)
footprint MXA16A_L (TSOP, 16-Leads, Body 5x4.4mm, Pitch 0.65mm, Exposed Pad, IPC High Density)
footprint MXA16A_M (TSOP, 16-Leads, Body 5x4.4mm, Pitch 0.65mm, Exposed Pad, IPC Low Density)
pins: 1 SS/TRK, 2 FB (in), 3 PGOOD (oc), 4 COMP, 5 NC, 6 PVIN (power), 7 PVIN (power), 8 SW (power), 9 SW (power), 10 PGND (power), 11 PGND (power), 12 EN (in), 13 VCC (power), 14 AVIN (power), 15 AGND (power), 16 SYNC, 17 DAP (power)

## LM20136MHE/NOPB
designator U?
6A, Synchronous Buck Regulator with Input Synchronization, 16-pin TSSOP-EP, Pb-Free; PartNumber: LM20136MHE/NOPB; Manufacturer: National Semiconductor; PackageTopMarking: NSUZXYTT*L20136*MH; PowerWise: Y; CompType: Switcher; Published: 1-Mar-2010; DatasheetVersion: Feb-2009; PackageVersion: revA, Apr-2003; PackageReference: MXA16A; Publisher: Altium Limited; PackageDescription: Molded TSSOP, Jedec, Exposed Pad, 5.0 x 4.4 x 0.9mm Body,16 Lead, 0.65mm Pitch; Supplier 1: Digi-Key; Supplier Part Number 1: LM20136MHE-ND; RoHS: Y; PinCount: 16; Code_JEDEC: MO-153-ABT; ComponentLink1Description: LM20136 Datasheet; ComponentLink1URL: http://www.national.com/ds/LM/LM20136.pdf; ComponentLink2Description: LM20136 Web Page; ComponentLink2URL: http://www.national.com/pf/LM/LM20136.html; ComponentLink3Description: MXA16A Package Page; ComponentLink3URL: http://www.national.com/packaging/folders/mxa16a.html
footprint MXA16A_N (TSOP, 16-Leads, Body 5x4.4mm, Pitch 0.65mm, Exposed Pad, IPC Medium Density)
footprint MXA16A_L (TSOP, 16-Leads, Body 5x4.4mm, Pitch 0.65mm, Exposed Pad, IPC High Density)
footprint MXA16A_M (TSOP, 16-Leads, Body 5x4.4mm, Pitch 0.65mm, Exposed Pad, IPC Low Density)
pins: 1 SS/TRK, 2 FB (in), 3 PGOOD (oc), 4 COMP, 5 NC, 6 PVIN (power), 7 PVIN (power), 8 SW (power), 9 SW (power), 10 PGND (power), 11 PGND (power), 12 EN (in), 13 VCC (power), 14 AVIN (power), 15 AGND (power), 16 SYNC, 17 DAP (power)

## LM20136MHX
designator U?
6A, Synchronous Buck Regulator with Input Synchronization, 16-pin TSSOP-EP; PartNumber: LM20136MHX; Manufacturer: National Semiconductor; PackageTopMarking: NSUZXYTT*L20136*MH; PowerWise: Y; CompType: Switcher; Published: 4-May-2009; DatasheetVersion: Feb-2009; PackageVersion: revA, Apr-2003; PackageReference: MXA16A; Publisher: Altium Limited; PackageDescription: Molded TSSOP, Jedec, Exposed Pad, 5.0 x 4.4 x 0.9mm Body,16 Lead, 0.65mm Pitch; RoHS: Y; PinCount: 16; Code_JEDEC: MO-153-ABT; ComponentLink1Description: LM20136 Datasheet; ComponentLink1URL: http://www.national.com/ds/LM/LM20136.pdf; ComponentLink2Description: LM20136 Web Page; ComponentLink2URL: http://www.national.com/pf/LM/LM20136.html; ComponentLink3Description: MXA16A Package Page; ComponentLink3URL: http://www.national.com/packaging/folders/mxa16a.html
footprint MXA16A_N (TSOP, 16-Leads, Body 5x4.4mm, Pitch 0.65mm, Exposed Pad, IPC Medium Density)
footprint MXA16A_L (TSOP, 16-Leads, Body 5x4.4mm, Pitch 0.65mm, Exposed Pad, IPC High Density)
footprint MXA16A_M (TSOP, 16-Leads, Body 5x4.4mm, Pitch 0.65mm, Exposed Pad, IPC Low Density)
pins: 1 SS/TRK, 2 FB (in), 3 PGOOD (oc), 4 COMP, 5 NC, 6 PVIN (power), 7 PVIN (power), 8 SW (power), 9 SW (power), 10 PGND (power), 11 PGND (power), 12 EN (in), 13 VCC (power), 14 AVIN (power), 15 AGND (power), 16 SYNC, 17 DAP (power)

## LM20136MHX/NOPB
designator U?
6A, Synchronous Buck Regulator with Input Synchronization, 16-pin TSSOP-EP, Pb-Free; PartNumber: LM20136MHX/NOPB; Manufacturer: National Semiconductor; PackageTopMarking: NSUZXYTT*L20136*MH; PowerWise: Y; CompType: Switcher; Published: 1-Mar-2010; DatasheetVersion: Feb-2009; PackageVersion: revA, Apr-2003; PackageReference: MXA16A; Publisher: Altium Limited; PackageDescription: Molded TSSOP, Jedec, Exposed Pad, 5.0 x 4.4 x 0.9mm Body,16 Lead, 0.65mm Pitch; Supplier 1: Digi-Key; Supplier Part Number 1: LM20136MHX-ND; RoHS: Y; PinCount: 16; Code_JEDEC: MO-153-ABT; ComponentLink1Description: LM20136 Datasheet; ComponentLink1URL: http://www.national.com/ds/LM/LM20136.pdf; ComponentLink2Description: LM20136 Web Page; ComponentLink2URL: http://www.national.com/pf/LM/LM20136.html; ComponentLink3Description: MXA16A Package Page; ComponentLink3URL: http://www.national.com/packaging/folders/mxa16a.html
footprint MXA16A_N (TSOP, 16-Leads, Body 5x4.4mm, Pitch 0.65mm, Exposed Pad, IPC Medium Density)
footprint MXA16A_L (TSOP, 16-Leads, Body 5x4.4mm, Pitch 0.65mm, Exposed Pad, IPC High Density)
footprint MXA16A_M (TSOP, 16-Leads, Body 5x4.4mm, Pitch 0.65mm, Exposed Pad, IPC Low Density)
pins: 1 SS/TRK, 2 FB (in), 3 PGOOD (oc), 4 COMP, 5 NC, 6 PVIN (power), 7 PVIN (power), 8 SW (power), 9 SW (power), 10 PGND (power), 11 PGND (power), 12 EN (in), 13 VCC (power), 14 AVIN (power), 15 AGND (power), 16 SYNC, 17 DAP (power)

## LM20143MH
designator U?
3A, PowerWise Adjustable Frequency Synchronous Buck Regulator, 16-pin TSSOP-EP; PartNumber: LM20143MH; Manufacturer: National Semiconductor; PackageTopMarking: NSUZXYTT*20143*MH; PowerWise: Y; CompType: Switcher; Published: 4-Dec-2008; DatasheetVersion: Jan-2008; PackageVersion: revA, Apr-2003; PackageReference: MXA16A; Publisher: Altium Limited; PackageDescription: Molded TSSOP, Jedec, Exposed Pad, 5.0 x 4.4 x 0.9mm Body,16 Lead, 0.65mm Pitch; Supplier 1: Farnell; Supplier Part Number 1: 1506825; RoHS: Y; PinCount: 16; Code_JEDEC: MO-153-ABT; ComponentLink1Description: LM20143 Datasheet; ComponentLink1URL: http://www.national.com/ds/LM/LM20143.pdf; ComponentLink2Description: LM20143 Web Page; ComponentLink2URL: http://www.national.com/pf/LM/LM20143.html; ComponentLink3Description: MXA16A Package Page; ComponentLink3URL: http://www.national.com/packaging/folders/mxa16a.html
footprint MXA16A_N (TSOP, 16-Leads, Body 5x4.4mm, Pitch 0.65mm, Exposed Pad, IPC Medium Density)
footprint MXA16A_L (TSOP, 16-Leads, Body 5x4.4mm, Pitch 0.65mm, Exposed Pad, IPC High Density)
footprint MXA16A_M (TSOP, 16-Leads, Body 5x4.4mm, Pitch 0.65mm, Exposed Pad, IPC Low Density)
pins: 1 SS/TRK, 2 FB (in), 3 PGOOD (oc), 4 COMP, 5 NC, 6 PVIN (power), 7 PVIN (power), 8 SW (power), 9 SW (power), 10 PGND (power), 11 PGND (power), 12 EN (in), 13 VCC (power), 14 AVIN (power), 15 AGND (power), 16 RT (in), 17 DAP (power)

## LM20143MH/NOPB
designator U?
3A, PowerWise Adjustable Frequency Synchronous Buck Regulator, 16-pin TSSOP-EP, Pb-Free; PartNumber: LM20143MH/NOPB; Manufacturer: National Semiconductor; PackageTopMarking: NSUZXYTT*20143*MH; PowerWise: Y; CompType: Switcher; Published: 1-Mar-2010; DatasheetVersion: Jan-2008; PackageVersion: revA, Apr-2003; PackageReference: MXA16A; Publisher: Altium Limited; PackageDescription: Molded TSSOP, Jedec, Exposed Pad, 5.0 x 4.4 x 0.9mm Body,16 Lead, 0.65mm Pitch; Supplier 1: Digi-Key; Supplier Part Number 1: LM20143MH-ND; RoHS: Y; PinCount: 16; Code_JEDEC: MO-153-ABT; ComponentLink1Description: LM20143 Datasheet; ComponentLink1URL: http://www.national.com/ds/LM/LM20143.pdf; ComponentLink2Description: LM20143 Web Page; ComponentLink2URL: http://www.national.com/pf/LM/LM20143.html; ComponentLink3Description: MXA16A Package Page; ComponentLink3URL: http://www.national.com/packaging/folders/mxa16a.html
footprint MXA16A_N (TSOP, 16-Leads, Body 5x4.4mm, Pitch 0.65mm, Exposed Pad, IPC Medium Density)
footprint MXA16A_L (TSOP, 16-Leads, Body 5x4.4mm, Pitch 0.65mm, Exposed Pad, IPC High Density)
footprint MXA16A_M (TSOP, 16-Leads, Body 5x4.4mm, Pitch 0.65mm, Exposed Pad, IPC Low Density)
pins: 1 SS/TRK, 2 FB (in), 3 PGOOD (oc), 4 COMP, 5 NC, 6 PVIN (power), 7 PVIN (power), 8 SW (power), 9 SW (power), 10 PGND (power), 11 PGND (power), 12 EN (in), 13 VCC (power), 14 AVIN (power), 15 AGND (power), 16 RT (in), 17 DAP (power)

## LM20143MHE/NOPB
designator U?
3A, PowerWise Adjustable Frequency Synchronous Buck Regulator, 16-pin TSSOP-EP, Pb-Free; PartNumber: LM20143MHE/NOPB; Manufacturer: National Semiconductor; PackageTopMarking: NSUZXYTT*20143*MH; PowerWise: Y; CompType: Switcher; Published: 1-Mar-2010; DatasheetVersion: Jan-2008; PackageVersion: revA, Apr-2003; PackageReference: MXA16A; Publisher: Altium Limited; PackageDescription: Molded TSSOP, Jedec, Exposed Pad, 5.0 x 4.4 x 0.9mm Body,16 Lead, 0.65mm Pitch; Supplier 1: Digi-Key; Supplier Part Number 1: LM20143MHE-ND; RoHS: Y; PinCount: 16; Code_JEDEC: MO-153-ABT; ComponentLink1Description: LM20143 Datasheet; ComponentLink1URL: http://www.national.com/ds/LM/LM20143.pdf; ComponentLink2Description: LM20143 Web Page; ComponentLink2URL: http://www.national.com/pf/LM/LM20143.html; ComponentLink3Description: MXA16A Package Page; ComponentLink3URL: http://www.national.com/packaging/folders/mxa16a.html
footprint MXA16A_N (TSOP, 16-Leads, Body 5x4.4mm, Pitch 0.65mm, Exposed Pad, IPC Medium Density)
footprint MXA16A_L (TSOP, 16-Leads, Body 5x4.4mm, Pitch 0.65mm, Exposed Pad, IPC High Density)
footprint MXA16A_M (TSOP, 16-Leads, Body 5x4.4mm, Pitch 0.65mm, Exposed Pad, IPC Low Density)
pins: 1 SS/TRK, 2 FB (in), 3 PGOOD (oc), 4 COMP, 5 NC, 6 PVIN (power), 7 PVIN (power), 8 SW (power), 9 SW (power), 10 PGND (power), 11 PGND (power), 12 EN (in), 13 VCC (power), 14 AVIN (power), 15 AGND (power), 16 RT (in), 17 DAP (power)

## LM20143MHX/NOPB
designator U?
3A, PowerWise Adjustable Frequency Synchronous Buck Regulator, 16-pin TSSOP-EP, Pb-Free; PartNumber: LM20143MHX/NOPB; Manufacturer: National Semiconductor; PackageTopMarking: NSUZXYTT*20143*MH; PowerWise: Y; CompType: Switcher; Published: 1-Mar-2010; DatasheetVersion: Jan-2008; PackageVersion: revA, Apr-2003; PackageReference: MXA16A; Publisher: Altium Limited; PackageDescription: Molded TSSOP, Jedec, Exposed Pad, 5.0 x 4.4 x 0.9mm Body,16 Lead, 0.65mm Pitch; Supplier 1: Digi-Key; Supplier Part Number 1: LM20143MHX-ND; RoHS: Y; PinCount: 16; Code_JEDEC: MO-153-ABT; ComponentLink1Description: LM20143 Datasheet; ComponentLink1URL: http://www.national.com/ds/LM/LM20143.pdf; ComponentLink2Description: LM20143 Web Page; ComponentLink2URL: http://www.national.com/pf/LM/LM20143.html; ComponentLink3Description: MXA16A Package Page; ComponentLink3URL: http://www.national.com/packaging/folders/mxa16a.html
footprint MXA16A_N (TSOP, 16-Leads, Body 5x4.4mm, Pitch 0.65mm, Exposed Pad, IPC Medium Density)
footprint MXA16A_L (TSOP, 16-Leads, Body 5x4.4mm, Pitch 0.65mm, Exposed Pad, IPC High Density)
footprint MXA16A_M (TSOP, 16-Leads, Body 5x4.4mm, Pitch 0.65mm, Exposed Pad, IPC Low Density)
pins: 1 SS/TRK, 2 FB (in), 3 PGOOD (oc), 4 COMP, 5 NC, 6 PVIN (power), 7 PVIN (power), 8 SW (power), 9 SW (power), 10 PGND (power), 11 PGND (power), 12 EN (in), 13 VCC (power), 14 AVIN (power), 15 AGND (power), 16 RT (in), 17 DAP (power)

## LM20144MH
designator U?
4A, PowerWise Adjustable Frequency Synchronous Buck Regulator, 16-pin TSSOP-EP; PartNumber: LM20144MH; Manufacturer: National Semiconductor; PackageTopMarking: NSUZXYTT*20144*MH; PowerWise: Y; CompType: Switcher; Published: 4-Dec-2008; DatasheetVersion: Jan-2008; PackageVersion: revA, Apr-2003; PackageReference: MXA16A; Publisher: Altium Limited; PackageDescription: Molded TSSOP, Jedec, Exposed Pad, 5.0 x 4.4 x 0.9mm Body,16 Lead, 0.65mm Pitch; Supplier 1: Farnell; Supplier Part Number 1: 1495076; RoHS: Y; PinCount: 16; Code_JEDEC: MO-153-ABT; ComponentLink1Description: LM20144 Datasheet; ComponentLink1URL: http://www.national.com/ds/LM/LM20144.pdf; ComponentLink2Description: LM20144 Web Page; ComponentLink2URL: http://www.national.com/pf/LM/LM20144.html; ComponentLink3Description: MXA16A Package Page; ComponentLink3URL: http://www.national.com/packaging/folders/mxa16a.html
footprint MXA16A_N (TSOP, 16-Leads, Body 5x4.4mm, Pitch 0.65mm, Exposed Pad, IPC Medium Density)
footprint MXA16A_L (TSOP, 16-Leads, Body 5x4.4mm, Pitch 0.65mm, Exposed Pad, IPC High Density)
footprint MXA16A_M (TSOP, 16-Leads, Body 5x4.4mm, Pitch 0.65mm, Exposed Pad, IPC Low Density)
pins: 1 SS/TRK, 2 FB (in), 3 PGOOD (oc), 4 COMP, 5 NC, 6 PVIN (power), 7 PVIN (power), 8 SW (power), 9 SW (power), 10 PGND (power), 11 PGND (power), 12 EN (in), 13 VCC (power), 14 AVIN (power), 15 AGND (power), 16 RT (in), 17 DAP (power)

## LM20144MH/NOPB
designator U?
4A, PowerWise Adjustable Frequency Synchronous Buck Regulator, 16-pin TSSOP-EP, Pb-Free; PartNumber: LM20144MH/NOPB; Manufacturer: National Semiconductor; PackageTopMarking: NSUZXYTT*20144*MH; PowerWise: Y; CompType: Switcher; Published: 1-Mar-2010; DatasheetVersion: Jan-2008; PackageVersion: revA, Apr-2003; PackageReference: MXA16A; Publisher: Altium Limited; PackageDescription: Molded TSSOP, Jedec, Exposed Pad, 5.0 x 4.4 x 0.9mm Body,16 Lead, 0.65mm Pitch; Supplier 1: Digi-Key; Supplier Part Number 1: LM20144MH-ND; Supplier 2: Farnell; Supplier Part Number 2: 1511028; RoHS: Y; PinCount: 16; Code_JEDEC: MO-153-ABT; ComponentLink1Description: LM20144 Datasheet; ComponentLink1URL: http://www.national.com/ds/LM/LM20144.pdf; ComponentLink2Description: LM20144 Web Page; ComponentLink2URL: http://www.national.com/pf/LM/LM20144.html; ComponentLink3Description: MXA16A Package Page; ComponentLink3URL: http://www.national.com/packaging/folders/mxa16a.html
footprint MXA16A_N (TSOP, 16-Leads, Body 5x4.4mm, Pitch 0.65mm, Exposed Pad, IPC Medium Density)
footprint MXA16A_L (TSOP, 16-Leads, Body 5x4.4mm, Pitch 0.65mm, Exposed Pad, IPC High Density)
footprint MXA16A_M (TSOP, 16-Leads, Body 5x4.4mm, Pitch 0.65mm, Exposed Pad, IPC Low Density)
pins: 1 SS/TRK, 2 FB (in), 3 PGOOD (oc), 4 COMP, 5 NC, 6 PVIN (power), 7 PVIN (power), 8 SW (power), 9 SW (power), 10 PGND (power), 11 PGND (power), 12 EN (in), 13 VCC (power), 14 AVIN (power), 15 AGND (power), 16 RT (in), 17 DAP (power)

## LM20144MHE/NOPB
designator U?
4A, PowerWise Adjustable Frequency Synchronous Buck Regulator, 16-pin TSSOP-EP, Pb-Free; PartNumber: LM20144MHE/NOPB; Manufacturer: National Semiconductor; PackageTopMarking: NSUZXYTT*20144*MH; PowerWise: Y; CompType: Switcher; Published: 1-Mar-2010; DatasheetVersion: Jan-2008; PackageVersion: revA, Apr-2003; PackageReference: MXA16A; Publisher: Altium Limited; PackageDescription: Molded TSSOP, Jedec, Exposed Pad, 5.0 x 4.4 x 0.9mm Body,16 Lead, 0.65mm Pitch; Supplier 1: Digi-Key; Supplier Part Number 1: LM20144MHE-ND; RoHS: Y; PinCount: 16; Code_JEDEC: MO-153-ABT; ComponentLink1Description: LM20144 Datasheet; ComponentLink1URL: http://www.national.com/ds/LM/LM20144.pdf; ComponentLink2Description: LM20144 Web Page; ComponentLink2URL: http://www.national.com/pf/LM/LM20144.html; ComponentLink3Description: MXA16A Package Page; ComponentLink3URL: http://www.national.com/packaging/folders/mxa16a.html
footprint MXA16A_N (TSOP, 16-Leads, Body 5x4.4mm, Pitch 0.65mm, Exposed Pad, IPC Medium Density)
footprint MXA16A_L (TSOP, 16-Leads, Body 5x4.4mm, Pitch 0.65mm, Exposed Pad, IPC High Density)
footprint MXA16A_M (TSOP, 16-Leads, Body 5x4.4mm, Pitch 0.65mm, Exposed Pad, IPC Low Density)
pins: 1 SS/TRK, 2 FB (in), 3 PGOOD (oc), 4 COMP, 5 NC, 6 PVIN (power), 7 PVIN (power), 8 SW (power), 9 SW (power), 10 PGND (power), 11 PGND (power), 12 EN (in), 13 VCC (power), 14 AVIN (power), 15 AGND (power), 16 RT (in), 17 DAP (power)

## LM20144MHX/NOPB
designator U?
4A, PowerWise Adjustable Frequency Synchronous Buck Regulator, 16-pin TSSOP-EP, Pb-Free; PartNumber: LM20144MHX/NOPB; Manufacturer: National Semiconductor; PackageTopMarking: NSUZXYTT*20144*MH; PowerWise: Y; CompType: Switcher; Published: 1-Mar-2010; DatasheetVersion: Jan-2008; PackageVersion: revA, Apr-2003; PackageReference: MXA16A; Publisher: Altium Limited; PackageDescription: Molded TSSOP, Jedec, Exposed Pad, 5.0 x 4.4 x 0.9mm Body,16 Lead, 0.65mm Pitch; Supplier 1: Digi-Key; Supplier Part Number 1: LM20144MHX-ND; RoHS: Y; PinCount: 16; Code_JEDEC: MO-153-ABT; ComponentLink1Description: LM20144 Datasheet; ComponentLink1URL: http://www.national.com/ds/LM/LM20144.pdf; ComponentLink2Description: LM20144 Web Page; ComponentLink2URL: http://www.national.com/pf/LM/LM20144.html; ComponentLink3Description: MXA16A Package Page; ComponentLink3URL: http://www.national.com/packaging/folders/mxa16a.html
footprint MXA16A_N (TSOP, 16-Leads, Body 5x4.4mm, Pitch 0.65mm, Exposed Pad, IPC Medium Density)
footprint MXA16A_L (TSOP, 16-Leads, Body 5x4.4mm, Pitch 0.65mm, Exposed Pad, IPC High Density)
footprint MXA16A_M (TSOP, 16-Leads, Body 5x4.4mm, Pitch 0.65mm, Exposed Pad, IPC Low Density)
pins: 1 SS/TRK, 2 FB (in), 3 PGOOD (oc), 4 COMP, 5 NC, 6 PVIN (power), 7 PVIN (power), 8 SW (power), 9 SW (power), 10 PGND (power), 11 PGND (power), 12 EN (in), 13 VCC (power), 14 AVIN (power), 15 AGND (power), 16 RT (in), 17 DAP (power)

## LM20145MH
designator U?
5A, PowerWise Adjustable Frequency Synchronous Buck Regulator, 16-pin TSSOP-EP; PartNumber: LM20145MH; Manufacturer: National Semiconductor; PackageTopMarking: NSUZXYTT*20145*MH; PowerWise: Y; CompType: Switcher; Published: 4-Dec-2008; DatasheetVersion: Jan-2008; PackageVersion: revA, Apr-2003; PackageReference: MXA16A; Publisher: Altium Limited; PackageDescription: Molded TSSOP, Jedec, Exposed Pad, 5.0 x 4.4 x 0.9mm Body,16 Lead, 0.65mm Pitch; Supplier 1: Farnell; Supplier Part Number 1: 1495077; RoHS: Y; PinCount: 16; Code_JEDEC: MO-153-ABT; ComponentLink1Description: LM20145 Datasheet; ComponentLink1URL: http://www.national.com/ds/LM/LM20145.pdf; ComponentLink2Description: LM20145 Web Page; ComponentLink2URL: http://www.national.com/pf/LM/LM20145.html; ComponentLink3Description: MXA16A Package Page; ComponentLink3URL: http://www.national.com/packaging/folders/mxa16a.html
footprint MXA16A_N (TSOP, 16-Leads, Body 5x4.4mm, Pitch 0.65mm, Exposed Pad, IPC Medium Density)
footprint MXA16A_L (TSOP, 16-Leads, Body 5x4.4mm, Pitch 0.65mm, Exposed Pad, IPC High Density)
footprint MXA16A_M (TSOP, 16-Leads, Body 5x4.4mm, Pitch 0.65mm, Exposed Pad, IPC Low Density)
pins: 1 SS/TRK, 2 FB (in), 3 PGOOD (oc), 4 COMP, 5 NC, 6 PVIN (power), 7 PVIN (power), 8 SW (power), 9 SW (power), 10 PGND (power), 11 PGND (power), 12 EN (in), 13 VCC (power), 14 AVIN (power), 15 AGND (power), 16 RT (in), 17 DAP (power)

## LM20145MH/NOPB
designator U?
5A, PowerWise Adjustable Frequency Synchronous Buck Regulator, 16-pin TSSOP-EP, Pb-Free; PartNumber: LM20145MH/NOPB; Manufacturer: National Semiconductor; PackageTopMarking: NSUZXYTT*20145*MH; PowerWise: Y; CompType: Switcher; Published: 1-Mar-2010; DatasheetVersion: Jan-2008; PackageVersion: revA, Apr-2003; PackageReference: MXA16A; Publisher: Altium Limited; PackageDescription: Molded TSSOP, Jedec, Exposed Pad, 5.0 x 4.4 x 0.9mm Body,16 Lead, 0.65mm Pitch; Supplier 1: Digi-Key; Supplier Part Number 1: LM20145MH-ND; Supplier 2: Farnell; Supplier Part Number 2: 1511029; RoHS: Y; PinCount: 16; Code_JEDEC: MO-153-ABT; ComponentLink1Description: LM20145 Datasheet; ComponentLink1URL: http://www.national.com/ds/LM/LM20145.pdf; ComponentLink2Description: LM20145 Web Page; ComponentLink2URL: http://www.national.com/pf/LM/LM20145.html; ComponentLink3Description: MXA16A Package Page; ComponentLink3URL: http://www.national.com/packaging/folders/mxa16a.html
footprint MXA16A_N (TSOP, 16-Leads, Body 5x4.4mm, Pitch 0.65mm, Exposed Pad, IPC Medium Density)
footprint MXA16A_L (TSOP, 16-Leads, Body 5x4.4mm, Pitch 0.65mm, Exposed Pad, IPC High Density)
footprint MXA16A_M (TSOP, 16-Leads, Body 5x4.4mm, Pitch 0.65mm, Exposed Pad, IPC Low Density)
pins: 1 SS/TRK, 2 FB (in), 3 PGOOD (oc), 4 COMP, 5 NC, 6 PVIN (power), 7 PVIN (power), 8 SW (power), 9 SW (power), 10 PGND (power), 11 PGND (power), 12 EN (in), 13 VCC (power), 14 AVIN (power), 15 AGND (power), 16 RT (in), 17 DAP (power)

## LM20145MHE/NOPB
designator U?
5A, PowerWise Adjustable Frequency Synchronous Buck Regulator, 16-pin TSSOP-EP, Pb-Free; PartNumber: LM20145MHE/NOPB; Manufacturer: National Semiconductor; PackageTopMarking: NSUZXYTT*20145*MH; PowerWise: Y; CompType: Switcher; Published: 1-Mar-2010; DatasheetVersion: Jan-2008; PackageVersion: revA, Apr-2003; PackageReference: MXA16A; Publisher: Altium Limited; PackageDescription: Molded TSSOP, Jedec, Exposed Pad, 5.0 x 4.4 x 0.9mm Body,16 Lead, 0.65mm Pitch; Supplier 1: Digi-Key; Supplier Part Number 1: LM20145MHE-ND; RoHS: Y; PinCount: 16; Code_JEDEC: MO-153-ABT; ComponentLink1Description: LM20145 Datasheet; ComponentLink1URL: http://www.national.com/ds/LM/LM20145.pdf; ComponentLink2Description: LM20145 Web Page; ComponentLink2URL: http://www.national.com/pf/LM/LM20145.html; ComponentLink3Description: MXA16A Package Page; ComponentLink3URL: http://www.national.com/packaging/folders/mxa16a.html
footprint MXA16A_N (TSOP, 16-Leads, Body 5x4.4mm, Pitch 0.65mm, Exposed Pad, IPC Medium Density)
footprint MXA16A_L (TSOP, 16-Leads, Body 5x4.4mm, Pitch 0.65mm, Exposed Pad, IPC High Density)
footprint MXA16A_M (TSOP, 16-Leads, Body 5x4.4mm, Pitch 0.65mm, Exposed Pad, IPC Low Density)
pins: 1 SS/TRK, 2 FB (in), 3 PGOOD (oc), 4 COMP, 5 NC, 6 PVIN (power), 7 PVIN (power), 8 SW (power), 9 SW (power), 10 PGND (power), 11 PGND (power), 12 EN (in), 13 VCC (power), 14 AVIN (power), 15 AGND (power), 16 RT (in), 17 DAP (power)

## LM20145MHX/NOPB
designator U?
5A, PowerWise Adjustable Frequency Synchronous Buck Regulator, 16-pin TSSOP-EP, Pb-Free; PartNumber: LM20145MHX/NOPB; Manufacturer: National Semiconductor; PackageTopMarking: NSUZXYTT*20145*MH; PowerWise: Y; CompType: Switcher; Published: 1-Mar-2010; DatasheetVersion: Jan-2008; PackageVersion: revA, Apr-2003; PackageReference: MXA16A; Publisher: Altium Limited; PackageDescription: Molded TSSOP, Jedec, Exposed Pad, 5.0 x 4.4 x 0.9mm Body,16 Lead, 0.65mm Pitch; Supplier 1: Digi-Key; Supplier Part Number 1: LM20145MHX-ND; RoHS: Y; PinCount: 16; Code_JEDEC: MO-153-ABT; ComponentLink1Description: LM20145 Datasheet; ComponentLink1URL: http://www.national.com/ds/LM/LM20145.pdf; ComponentLink2Description: LM20145 Web Page; ComponentLink2URL: http://www.national.com/pf/LM/LM20145.html; ComponentLink3Description: MXA16A Package Page; ComponentLink3URL: http://www.national.com/packaging/folders/mxa16a.html
footprint MXA16A_N (TSOP, 16-Leads, Body 5x4.4mm, Pitch 0.65mm, Exposed Pad, IPC Medium Density)
footprint MXA16A_L (TSOP, 16-Leads, Body 5x4.4mm, Pitch 0.65mm, Exposed Pad, IPC High Density)
footprint MXA16A_M (TSOP, 16-Leads, Body 5x4.4mm, Pitch 0.65mm, Exposed Pad, IPC Low Density)
pins: 1 SS/TRK, 2 FB (in), 3 PGOOD (oc), 4 COMP, 5 NC, 6 PVIN (power), 7 PVIN (power), 8 SW (power), 9 SW (power), 10 PGND (power), 11 PGND (power), 12 EN (in), 13 VCC (power), 14 AVIN (power), 15 AGND (power), 16 RT (in), 17 DAP (power)

## LM20154MH
designator U?
4A, 1MHz PowerWise Synchronous Buck Regulator with SYNCOUT, 16-pin TSSOP-EP; PartNumber: LM20154MH; Manufacturer: National Semiconductor; PackageTopMarking: NSUZXYTT*20154*MH; PowerWise: Y; CompType: Switcher; Published: 4-Dec-2008; DatasheetVersion: Dec-2008; PackageVersion: revA, Apr-2003; PackageReference: MXA16A; Publisher: Altium Limited; PackageDescription: Molded TSSOP, Jedec, Exposed Pad, 5.0 x 4.4 x 0.9mm Body,16 Lead, 0.65mm Pitch; Supplier 1: Farnell; Supplier Part Number 1: 1506828; RoHS: Y; PinCount: 16; Code_JEDEC: MO-153-ABT; ComponentLink1Description: LM20154 Datasheet; ComponentLink1URL: http://www.national.com/ds/LM/LM20154.pdf; ComponentLink2Description: LM20154 Web Page; ComponentLink2URL: http://www.national.com/pf/LM/LM20154.html; ComponentLink3Description: MXA16A Package Page; ComponentLink3URL: http://www.national.com/packaging/folders/mxa16a.html
footprint MXA16A_N (TSOP, 16-Leads, Body 5x4.4mm, Pitch 0.65mm, Exposed Pad, IPC Medium Density)
footprint MXA16A_L (TSOP, 16-Leads, Body 5x4.4mm, Pitch 0.65mm, Exposed Pad, IPC High Density)
footprint MXA16A_M (TSOP, 16-Leads, Body 5x4.4mm, Pitch 0.65mm, Exposed Pad, IPC Low Density)
pins: 1 SS/TRK, 2 FB (in), 3 PGOOD (oc), 4 COMP, 5 NC, 6 PVIN (power), 7 PVIN (power), 8 SW (power), 9 SW (power), 10 PGND (power), 11 PGND (power), 12 EN (in), 13 VCC (power), 14 AVIN (power), 15 AGND (power), 16 SYNCOUT (out), 17 DAP (power)

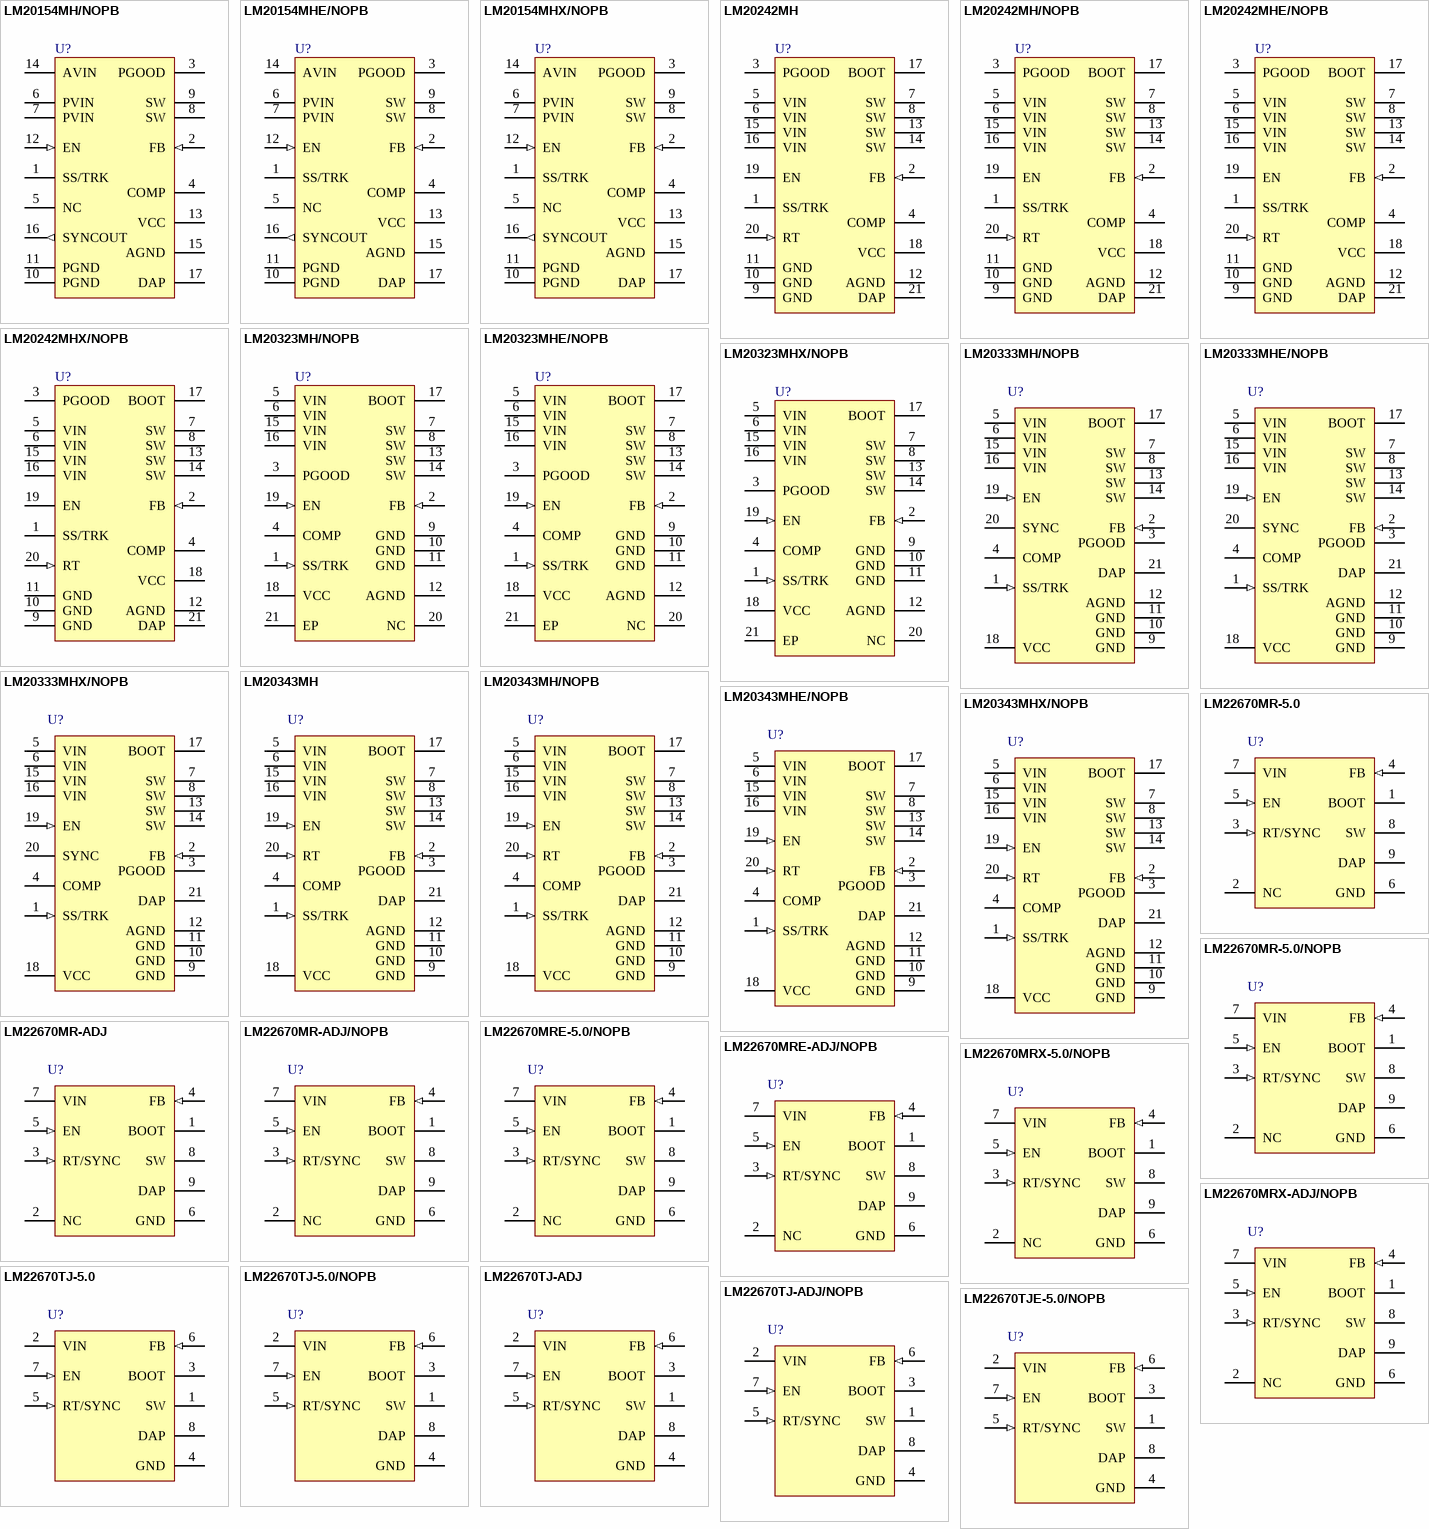
[diagram p48: symbols LM20154MH/NOPB to LM22670TJE-5.0/NOPB]